# EAGLE library part DG38C-A-06P-13-00AHDEGSON (library Degson_Term_Blocks)
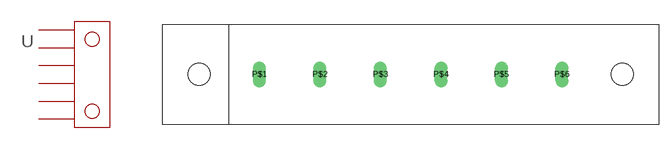
[diagram p0: symbol with the pads of DG38C-A-06P-13-00AH; footprint DG38C-A-06P-13-00AH]

Designator prefix -

## DG38C-A-06P-13-00AHDEGSON  [DG38C-A-06P-13-00AH]
P$1  P$1
P$2  P$2
P$3  P$3
P$4  P$4
P$5  P$5
P$6  P$6

## Footprint DG38C-A-06P-13-00AH (pad centres in mm)
drill 1.2 long: P$1 0,0; P$2 8.25,0; P$3 16.5,0; P$4 24.75,0; P$5 33,0; P$6 41.25,0
hole 3 at -8.25,0
hole 3 at 49.5,0